# Altium integrated library 430451600.IntLib: 1 symbol
Pins are listed as number, name and electrical type; pins without a type are passive.

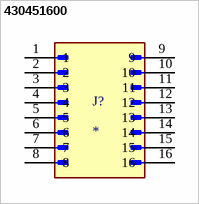
[diagram p0: symbol 430451600]

## 430451600
designator J?
Conn Wire to Board HDR 16 POS 3mm Solder RA Side Entry Thru-Hole Micro-Fit 3.0â„¢ Tray; MF: Molex; MP: 430451600; SnapEDA_Link: https://www.snapeda.com/parts/430451600/Molex/view-part/?ref=snap; Package: None; Value: *; Check_prices: https://www.snapeda.com/parts/430451600/Molex/view-part/?ref=eda
footprint MOLEX_430451600
pins: 1, 2, 3, 4, 5, 6, 7, 8, 9, 10, 11, 12, 13, 14, 15, 16